# EAGLE library part CC2500A (library CC2500A)
CC2500A Moduel
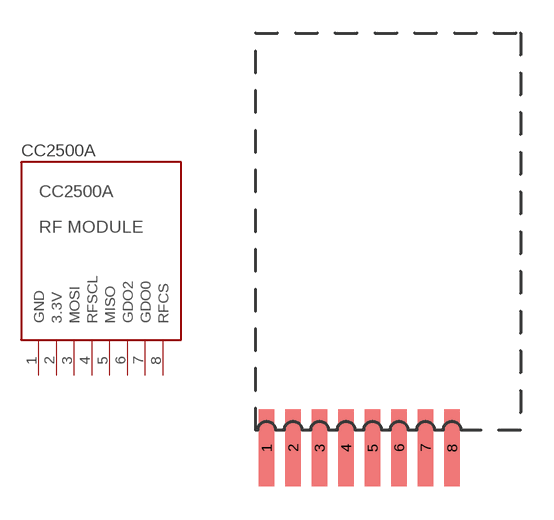
[diagram p0: symbol with the pads of CC2500; footprint CC2500]

Designator prefix CC2500A

## CC2500A-MODULE  [CC2500]
1  GND
2  3.3V
3  MOSI
4  RFSCL
5  MISO
6  GDO2
7  GDO0
8  RFCS

## Footprint CC2500 (pad centres in mm)
smd 0.7 x 3.5: 1 -5.5,-6.8; 2 -4.3,-6.8; 3 -3.1,-6.8; 4 -1.9,-6.8; 5 -0.7,-6.8; 6 0.5,-6.8; 7 1.7,-6.8; 8 2.9,-6.8